# Altium footprint library Pcb Library.PcbLib: 25 footprints (part 1 of 2)
Each footprint in its own frame and in the unit in brackets; x right, y up, seen from the top. Pads: shape width x height; smd on the part's side, far side on the other; paste and mask are expansions set on the pad; w line width, h text height; cw(c..) or ccw(c..) is an arc to the next point about the centre after c.
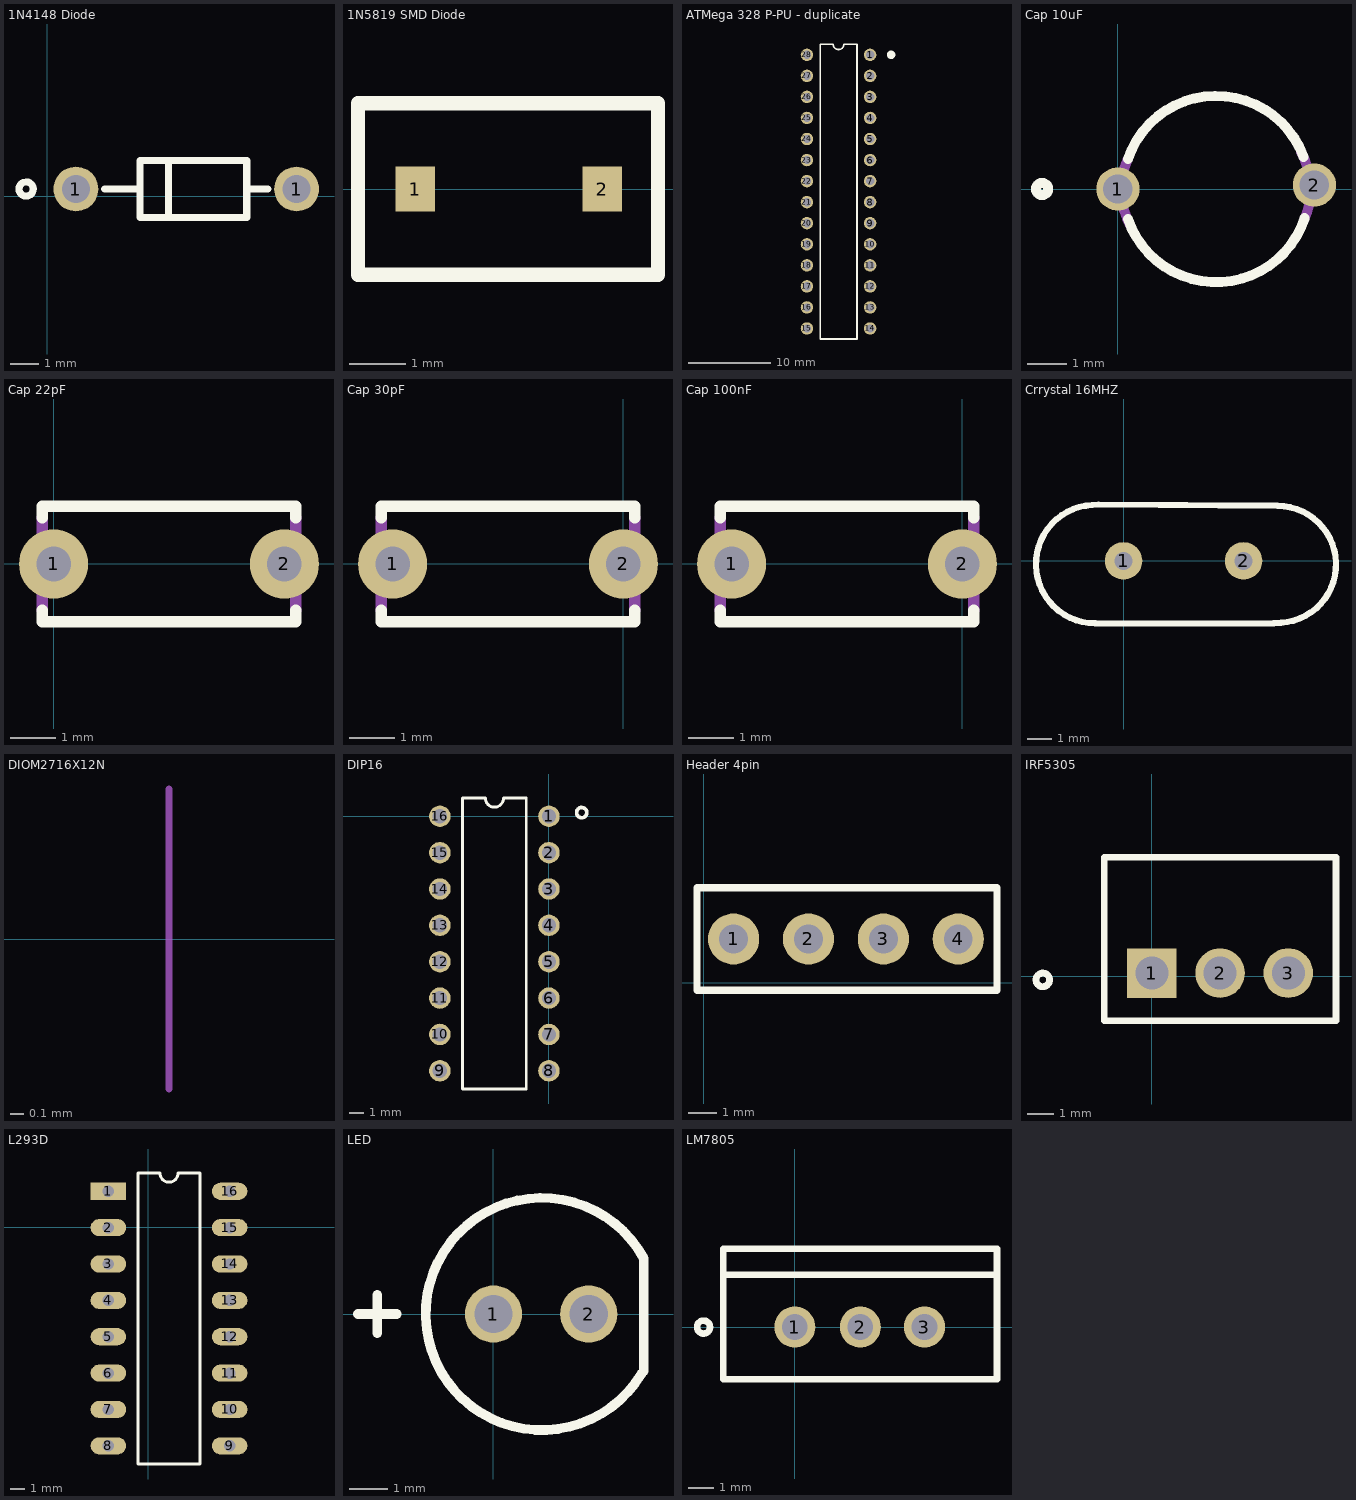
[diagram p0: the footprints below, top view; thin cyan lines are the x and y axes]

## 1N4148 Diode [mm]
pads (2):
  round 1.6 hole 1: 1(1.016,0.254) 1(8.89,0.254)
Top Overlay:
  lines w0.254: -0.876,0.481 ccw(c-0.762,0.254) -0.762,0.508 ; 2.032,0.254 3.302,0.254 3.302,1.27 7.112,1.27 7.112,-0.762 3.302,-0.762 3.302,0.762 ; 4.318,-0.762 4.318,1.27 ; 7.112,0.254 7.874,0.254
3D body "1N4148_T50R.STEP": height 1.69, standoff -23.57, extent 0.78,-0.596 9.38,1.104

## 1N5819 SMD Diode [mm]
pads (2):
  rect 0.7x0.8 smd: 1(6.858,0) 2(10.183,0)
Top Overlay:
  lines w0.254: 5.842,-1.524 11.176,-1.524 11.176,1.524 5.842,1.524 5.842,-1.524
3D body "1N5819HW-7-F--3DModel-STEP-56544.STEP": height 1.5, standoff -0.03, extent 6.811,-0.762 10.461,0.788

## 2z [mm]

## ATMega 328 P-PU - duplicate [mm]
pads (28):
  round 1.5 hole 1: 1(-52.07,55.88) 2(-52.07,53.34) 3(-52.07,50.8) 4(-52.07,48.26) 5(-52.07,45.72) 6(-52.07,43.18) 7(-52.07,40.64) 8(-52.07,38.1) 9(-52.07,35.56) 10(-52.07,33.02) 11(-52.07,30.48) 12(-52.07,27.94) 13(-52.07,25.4) 14(-52.07,22.86) 15(-59.69,22.86) 16(-59.69,25.4) 17(-59.69,27.94) 18(-59.69,30.48) 19(-59.69,33.02) 20(-59.69,35.56) 21(-59.69,38.1) 22(-59.69,40.64) 23(-59.69,43.18) 24(-59.69,45.72) 25(-59.69,48.26) 26(-59.69,50.8) 27(-59.69,53.34) 28(-59.69,55.88)
Top Overlay:
  circle w0.5: c-49.53,55.88 r0.254
  lines w0.2: -58.105,21.59 -53.655,21.59 -53.655,57.15 -55.245,57.15 cw(c-55.88,57.15) -56.515,57.15 -58.105,57.15 -58.105,21.59
3D body "ATMEGA328P-PU--3DModel-STEP-56544.STEP": height 4.57, standoff -3.43, extent -59.83,21.971 -51.93,56.642

## Cap 10uF [mm]
pads (2):
  round 1.1 hole 0.75: 1(0,0) 2(5,0.102)
Top Overlay:
  circle w0.254: c-1.93,0 r0.155
  lines w0.254: 0.254,-0.762 ccw(c2.5,0) 4.754,-0.738 ; 0.254,0.762 cw(c2.5,0) 4.726,0.819
Mechanical 1:
  lines w0.254: 0.254,0.762 ccw(c1.97,-0.02) 0.336,-0.961 ; 4.657,0.941 cw(c3.023,0) 4.735,-0.789
3D body "Cap 10uf.STEP": height 12.5, standoff -15.5, extent -0.21,-2.5 5.29,2.5

## Cap 22pF [mil]
pads (2):
  round 60 hole 30: 1(0,0) 2(200,0)
Top Overlay:
  lines w10: -10,-40 -10,-50 210,-50 210,-40 ; -10,40 -10,50 210,50 210,40
Mechanical 1:
  lines w10: -10,-40 -10,40 ; 210,-40 210,40
3D body "Cap 22pF.STEP": height 216.54, standoff -354.33, extent -8.27,-49.21 208.27,49.21

## Cap 30pF [mil]
pads (2):
  round 60 hole 30: 1(-200,0) 2(0,0)
Top Overlay:
  lines w10: -210,-40 -210,-50 10,-50 10,-40 ; -210,40 -210,50 10,50 10,40
Mechanical 1:
  lines w10: -210,-40 -210,40 ; 10,-40 10,40

## Cap 100nF [mil]
pads (2):
  round 60 hole 30: 1(-200,0) 2(0,0)
Top Overlay:
  lines w10: -210,-40 -210,-50 10,-50 10,-40 ; -210,40 -210,50 10,50 10,40
Mechanical 1:
  lines w10: -210,-40 -210,40 ; 10,-40 10,40

## Crrystal 16MHZ [mil]
pads (2):
  round 60 hole 28.74: 1(0,0) 2(192.13,0)
Top Overlay:
  lines w10: 239.87,-100.13 -45.3,-100.11 cw(c-45.3,-5.26) -50.28,89.46 -40,90 246.44,88.01 cw(c246.44,-5.72) 251.95,-99.29 240.59,-100.01
3D body "Crystal 3D .STEP": height 255.91, standoff -381.89, extent -123.43,-91.54 323.43,91.54

## DIOM2716X12N [mm] "Molded Diode, 2-Leads, Body 2.70x1.60mm, IPC Medium Density"
height 1.25
Mechanical 15:
  lines w0.05: 2.175,-1.1 2.175,1.1

## DIP16 [mm]
pads (16):
  round 1.5 hole 1: 1(0,0) 2(0,-2.54) 3(0,-5.08) 4(0,-7.62) 5(0,-10.16) 6(0,-12.7) 7(0,-15.24) 8(0,-17.78) 9(-7.62,-17.78) 10(-7.62,-15.24) 11(-7.62,-12.7) 12(-7.62,-10.16) 13(-7.62,-7.62) 14(-7.62,-5.08) 15(-7.62,-2.54) 16(-7.62,0)
Top Overlay:
  circle w0.254: c2.286,0.254 r0.359
  lines w0.2: -6.035,-19.05 -1.585,-19.05 -1.585,1.27 -3.175,1.27 cw(c-3.81,1.27) -4.445,1.27 -6.035,1.27 -6.035,-19.05

## Header 4pin [mil]
pads (4):
  round 70 hole 39.37: 1(41,60) 2(143.36,60) 3(245.72,60) 4(348.09,60)
Top Overlay:
  lines w10: -9,-10 401,-10 401,130 -9,130 -9,-10
3D body "SSW-104-02-T-S-LL.stp": height 335, standoff -194, extent -9,22.5 411,117.5

## IRF5305 [mm]
pads (3):
  rect 1.845x1.845 hole 1.23: 1(0,0.127)
  round 1.845 hole 1.23: 2(2.54,0.127) 3(5.08,0.127)
Top Overlay:
  circle w0.254: c-4.064,-0.127 r0.254
  lines w0.254: -1.778,-1.651 6.858,-1.651 6.858,4.445 -1.778,4.445 -1.778,-1.651
3D body "IRF5305PBF.STEP": height 19.3, standoff -10.03, extent -2.667,-1.27 7.747,3.175

## L293D [mm]
pads (16):
  rect 2.5x1.2 hole 0.8: 1(-2.794,2.54)
  oval 2.5x1.2 hole 0.8: 2(-2.794,-0.01) 3(-2.794,-2.56) 4(-2.794,-5.11) 5(-2.794,-7.66) 6(-2.794,-10.21) 7(-2.794,-12.76) 8(-2.794,-15.31) 9(5.706,-15.31) 10(5.706,-12.76) 11(5.706,-10.21) 12(5.706,-7.66) 13(5.706,-5.11) 14(5.706,-2.56) 15(5.706,-0.01) 16(5.706,2.54)
Top Overlay:
  lines w0.2: -0.709,-16.585 3.621,-16.585 3.621,3.815 2.093,3.815 cw(c1.456,3.815) 0.818,3.815 -0.709,3.815 -0.709,-16.585
3D body "L293D--3DModel-STEP-418109.STEP": height 5.1, standoff -3.3, extent -3.302,-16.444 5.939,3.556

## LED [mm]
pads (2):
  round 1.5 hole 1: 1(0,0) 2(2.5,0)
Top Overlay:
  lines w0.254: -3.556,0 -2.54,0 ; -3.048,-0.508 -3.048,0.508 ; 3.884,-1.568 cw(c1.27,0) 3.946,1.46 3.946,-1.506
3D body "LED--3DModel-STEP-510211.STEP": height 10.6, standoff -25, extent -1.664,-2.95 3.77,2.95

## LM7805 [mm]
pads (3):
  round 1.6 hole 1: 1(0,0) 2(2.55,0) 3(5.05,0)
Top Overlay:
  circle w0.254: c-3.556,0 r0.254
  lines w0.254: -2.794,2.032 7.874,2.032 ; -2.794,-2.032 7.874,-2.032 7.874,3.048 -2.794,3.048 -2.794,-2.032
3D body "LM7805CT.STEP": height 19.81, standoff -9.52, extent -2.54,-1.841 7.62,2.858